# Altium footprint library POGO.PcbLib: 28 footprints (part 2 of 3)
Each footprint in its own frame and in the unit in brackets; x right, y up, seen from the top. Pads: shape width x height; smd on the part's side, far side on the other; paste and mask are expansions set on the pad; w line width, h text height; cw(c..) or ccw(c..) is an arc to the next point about the centre after c.
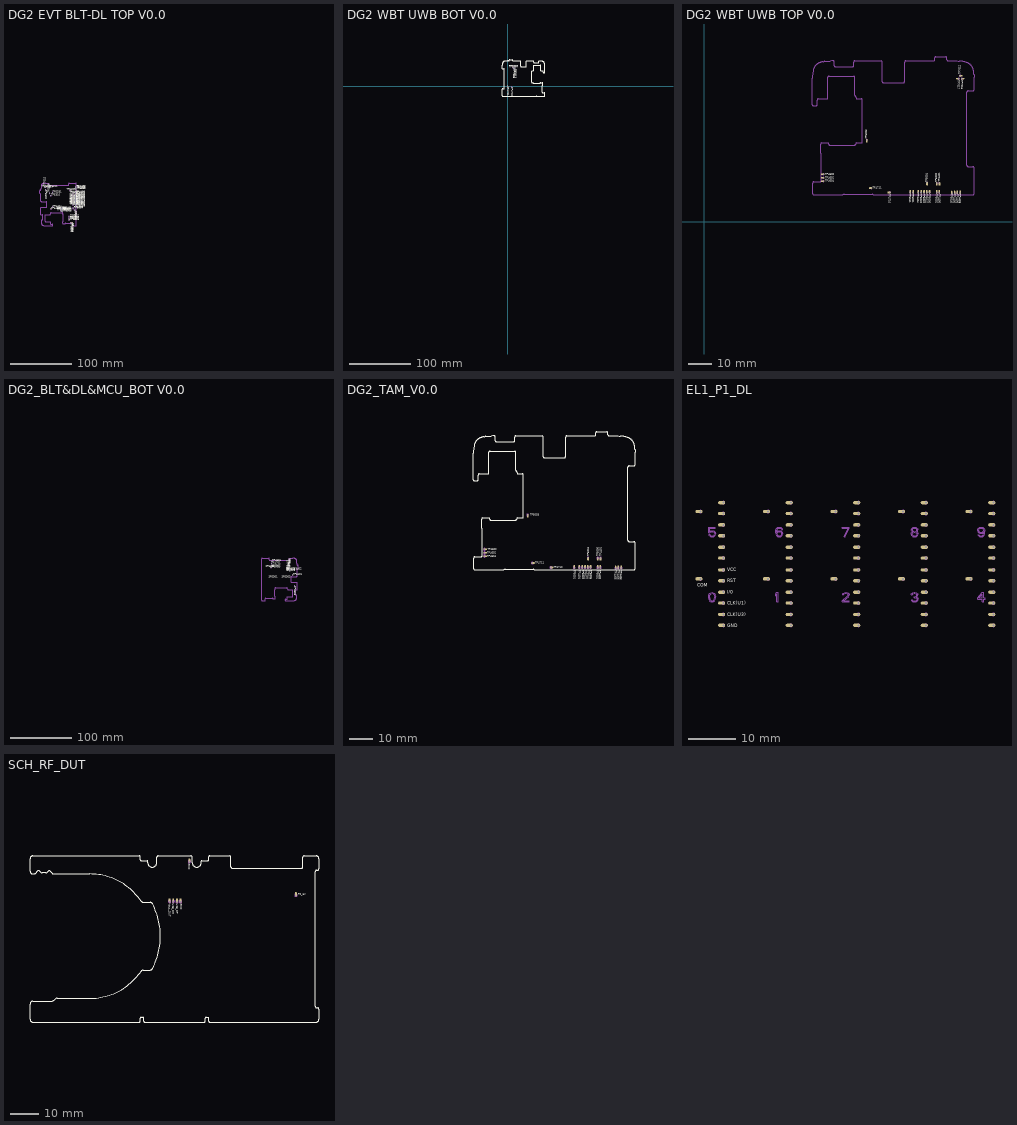
[diagram p1: the footprints below, top view; thin cyan lines are the x and y axes]

## DG2 EVT BLT-DL TOP V0.0 [mm]
pads (67):
  oval 1.5x0.7 hole 0.45 copper offset -0.35,0: TP3301(-612.206,-1149.891) TP4401(-612.168,-1129.165) TP5000(-612.168,-1130.346) TP5004(-612.244,-1134.448) TP5012(-612.206,-1148.698) TP5013(-612.181,-1146.348) TP5014(-612.244,-1142.754) TP5015(-612.155,-1145.129) TP5016(-612.168,-1143.961) TP5030(-612.244,-1141.573) TP5039(-612.257,-1135.629) TP5043(-612.193,-1147.529) TP5309(-616.803,-1125.634) TP5333(-632.056,-1155.124) TP5402(-632.056,-1159.061) TP5603(-632.069,-1156.407) TP5604(-632.081,-1157.664) TP5901(-612.244,-1139.211) TP5902(-612.231,-1140.379) TP5903(-612.257,-1136.823) TP7012(-657.824,-1120.351)
  oval 1.5x0.7 hole 0.45 copper offset 0.35,0: TP3302(-608.167,-1149.002) TP4400(-608.155,-1129.19) TP4403(-607.951,-1120.313) TP4404(-608.155,-1138.157) TP4405(-607.824,-1122.713) TP4406(-607.951,-1121.532) TP4710(-608.18,-1150.272) TP4900(-618.607,-1170.58) TP4901(-618.594,-1174.263) TP5001(-608.167,-1140.379) TP5002(-608.167,-1130.372) TP5003(-630.557,-1160.178) TP5005(-608.167,-1133.381) TP5006(-612.003,-1154.324) TP5007(-612.015,-1155.581) TP5017(-608.155,-1145.002) TP5018(-608.155,-1143.567) TP5020(-608.193,-1136.899) TP5022(-608.167,-1135.731) TP5040(-607.824,-1123.895) TP5041(-608.193,-1141.624) TP5042(-608.18,-1134.55) TP5302(-608.155,-1146.475) TP5304(-608.155,-1147.821) TP5308(-650.204,-1130.714) TP5332(-618.759,-1168.573) TP5401(-630.557,-1155.124) TP5502(-656.813,-1125.002) TP5503(-608.193,-1152.457) TP5601(-630.557,-1157.664) TP5602(-630.557,-1158.934) TP5605(-630.557,-1156.394) TP6110(-618.607,-1171.824) TP6111(-618.594,-1173.069) TP7015(-656.643,-1119.665) TP7017(-656.643,-1120.986)
  oval 0.7x1.5 hole 0.45 copper offset 0,0.35: TP4600(-615.904,-1178.556) TP4602(-614.402,-1178.553) TP4604(-613.006,-1178.56) TP5310(-648.338,-1134.626) TP5331(-645.7,-1129.505) TP5403(-648.02,-1156.076) TP5404(-645.442,-1152.901)
  oval 0.7x1.5 hole 0.45 copper offset 0,-0.35: TP4711(-610.06,-1158.159) TP5011(-608.663,-1158.146) TP5311(-652.071,-1120.846)
Top Overlay:
  text "TP4710" at -606.736,-1150.804 h0.7
  text "TP3302" at -606.736,-1149.458 h0.7
  text "TP5304" at -606.736,-1148.112 h0.7
  text "TP5302" at -606.736,-1146.765 h0.7
  text "TP5017" at -606.736,-1145.419 h0.7
  text "TP5018" at -606.736,-1144.073 h0.7
  text "TP5604" at -637.597,-1158.043 h0.7
  text "TP5310" at -647.757,-1134.929 h0.7
  text "TP5311" at -651.44,-1121.213 h0.7
  text "TP5308" at -649.802,-1130.23 h0.7
  text "TP5309" at -622.103,-1125.912 h0.7
  text "TP4901" at -616.769,-1174.68 h0.7
  text "TP6111" at -616.769,-1173.452 h0.7
  text "TP6110" at -616.769,-1172.225 h0.7
  text "TP4900" at -616.769,-1170.997 h0.7
  text "TP5042" at -606.736,-1134.993 h0.7
  text "TP5007" at -610.546,-1156.011 h0.7
  text "TP5006" at -610.546,-1154.741 h0.7
  text "TP5003" at -628.961,-1160.583 h0.7
  text "TP4403" at -606.355,-1120.705 h0.7
  text "TP4404" at -606.736,-1138.612 h0.7
  text "TP4401" at -617.912,-1129.468 h0.7
  text "TP5000" at -617.912,-1130.738 h0.7
  text "TP5005" at -606.736,-1133.786 h0.7
  text "TP5004" at -617.785,-1134.802 h0.7
  text "TP4405" at -606.355,-1123.16 h0.7
  text "TP4406" at -606.355,-1121.933 h0.7
  text "TP4400" at -606.736,-1129.595 h0.7
  text "TP5002" at -606.736,-1130.738 h0.7
  text "TP5039" at -617.785,-1135.945 h0.7
  text "TP5022" at -606.736,-1136.199 h0.7
  text "TP5020" at -606.736,-1137.406 h0.7
  text "TP5001" at -606.736,-1140.771 h0.7
  text "TP5041" at -606.736,-1142.041 h0.7
  text "TP5605" at -628.961,-1156.773 h0.7
  text "TP5603" at -637.597,-1156.773 h0.7
  text "TP5602" at -628.961,-1159.313 h0.7
  text "TP5601" at -628.961,-1158.043 h0.7
  text "TP4604" at -613.34,-1179.265 h0.7
  text "TP4600" at -616.261,-1179.265 h0.7
  text "TP5011" at -609.022,-1159.707 h0.7
  text "TP5502" at -657.155,-1125.544 h0.7
  text "TP5903" at -617.785,-1137.088 h0.7
  text "TP5331" at -645.09,-1129.849 h0.7
  text "TP5332" at -616.896,-1168.965 h0.7
  text "TP5333" at -637.597,-1155.503 h0.7
  text "TP5401" at -628.961,-1155.503 h0.7
  text "TP5402" at -637.597,-1159.313 h0.7
  text "TP5403" at -647.376,-1156.392 h0.7
  text "TP5404" at -644.836,-1153.217 h0.7
  text "TP5503" at -606.736,-1152.836 h0.7
  text "TP4711" at -610.419,-1159.707 h0.7
  text "TP7015" at -656.279,-1119.308 h0.7
  text "TP7012" at -662.997,-1120.705 h0.7
  text "TP7017" at -658.552,-1122.356 h0.7
  text "TP5040" at -606.355,-1124.388 h0.7
  text "TP4602" at -614.801,-1179.265 h0.7
  text "TP5901" at -617.658,-1139.501 h0.7
  text "TP5902" at -617.658,-1140.672 h0.7
  text "TP5030" at -617.658,-1141.843 h0.7
  text "TP5014" at -617.658,-1143.015 h0.7
  text "TP5016" at -617.658,-1144.186 h0.7
  text "TP5015" at -617.658,-1145.357 h0.7
  text "TP5013" at -617.658,-1146.528 h0.7
  text "TP5043" at -617.658,-1147.7 h0.7
  text "TP5012" at -617.658,-1148.871 h0.7
  text "TP3301" at -617.658,-1150.042 h0.7
Mechanical 2:
  circle w0.013: c-648.02,-1156.076 r0.381
  circle w0.013: c-607.951,-1120.313 r0.381
  circle w0.013: c-607.951,-1121.532 r0.381
  circle w0.013: c-607.824,-1122.713 r0.381
  circle w0.013: c-607.824,-1123.895 r0.381
  circle w0.013: c-612.168,-1129.165 r0.381
  circle w0.013: c-608.155,-1129.19 r0.381
  circle w0.013: c-612.168,-1130.346 r0.381
  circle w0.013: c-608.167,-1130.372 r0.381
  circle w0.013: c-608.167,-1133.381 r0.381
  circle w0.013: c-608.18,-1134.55 r0.381
  circle w0.013: c-608.167,-1135.731 r0.381
  circle w0.013: c-608.193,-1136.899 r0.381
  circle w0.013: c-608.155,-1138.157 r0.381
  circle w0.013: c-608.167,-1140.379 r0.381
  circle w0.013: c-608.193,-1141.624 r0.381
  circle w0.013: c-608.155,-1143.567 r0.381
  circle w0.013: c-612.168,-1143.961 r0.381
  circle w0.013: c-608.155,-1145.002 r0.381
  circle w0.013: c-612.155,-1145.129 r0.381
  circle w0.013: c-612.231,-1140.379 r0.381
  circle w0.013: c-612.244,-1142.754 r0.381
  circle w0.013: c-612.244,-1139.211 r0.381
  circle w0.013: c-612.244,-1134.448 r0.381
  circle w0.013: c-612.244,-1141.573 r0.381
  circle w0.013: c-612.257,-1136.823 r0.381
  circle w0.013: c-612.257,-1135.629 r0.381
  circle w0.013: c-616.803,-1125.634 r0.381
  circle w0.013: c-645.7,-1129.505 r0.381
  circle w0.013: c-648.338,-1134.626 r0.381
  circle w0.013: c-650.204,-1130.714 r0.381
  circle w0.013: c-652.071,-1120.846 r0.381
  circle w0.013: c-656.643,-1120.986 r0.381
  circle w0.013: c-656.643,-1119.665 r0.381
  circle w0.013: c-656.813,-1125.002 r0.381
  circle w0.013: c-657.824,-1120.351 r0.381
  circle w0.013: c-608.155,-1146.475 r0.381
  circle w0.013: c-608.155,-1147.821 r0.381
  circle w0.013: c-608.167,-1149.002 r0.381
  circle w0.013: c-608.18,-1150.272 r0.381
  circle w0.013: c-608.193,-1152.457 r0.381
  circle w0.013: c-608.663,-1158.146 r0.381
  circle w0.013: c-610.06,-1158.159 r0.381
  circle w0.013: c-612.003,-1154.324 r0.381
  circle w0.013: c-612.015,-1155.581 r0.381
  circle w0.013: c-612.181,-1146.348 r0.381
  circle w0.013: c-612.193,-1147.529 r0.381
  circle w0.013: c-612.206,-1148.698 r0.381
  circle w0.013: c-612.206,-1149.891 r0.381
  circle w0.013: c-613.006,-1178.56 r0.381
  circle w0.013: c-614.402,-1178.553 r0.381
  circle w0.013: c-615.904,-1178.556 r0.381
  circle w0.013: c-618.594,-1173.069 r0.381
  circle w0.013: c-618.594,-1174.263 r0.381
  circle w0.013: c-618.607,-1171.824 r0.381
  circle w0.013: c-618.607,-1170.58 r0.381
  circle w0.013: c-618.759,-1168.573 r0.381
  circle w0.013: c-630.557,-1156.394 r0.381
  circle w0.013: c-630.557,-1158.934 r0.381
  circle w0.013: c-630.557,-1157.664 r0.381
  circle w0.013: c-630.557,-1155.124 r0.381
  circle w0.013: c-630.557,-1160.178 r0.381
  circle w0.013: c-632.056,-1155.124 r0.381
  circle w0.013: c-632.056,-1159.061 r0.381
  circle w0.013: c-632.069,-1156.407 r0.381
  circle w0.013: c-632.081,-1157.664 r0.381
  circle w0.013: c-645.442,-1152.901 r0.381
Mechanical 4:
  lines w0.2: -665.483,-1131.173 -664.683,-1131.173 cw(c-664.683,-1131.673) -664.184,-1131.673 -664.184,-1143.538 ccw(c-663.684,-1143.538) -663.683,-1144.038 -655.398,-1144.038 cw(c-655.398,-1144.538) -654.898,-1144.538 -654.898,-1153.038 cw(c-655.398,-1153.038) -655.398,-1153.538 -663.683,-1153.538 ccw(c-663.684,-1154.038) -664.184,-1154.038 -664.184,-1165.188 ccw(c-663.684,-1165.188) -663.683,-1165.688 -662.112,-1165.688 ; -665.483,-1131.173 cw(c-665.483,-1130.673) -665.983,-1130.673 -665.983,-1126.473 cw(c-665.483,-1126.473) -665.483,-1125.973 -664.683,-1125.973 ccw(c-664.683,-1125.473) -664.184,-1125.473 -664.184,-1123.788 cw(c-438.903,-1123.761) -664.183,-1123.174 cw(c-586.172,-1123.348) -664.179,-1122.583 cw(c-620.013,-1123.016) -664.171,-1122.041 cw(c-631.892,-1122.77) -664.156,-1121.546 cw(c-638.062,-1122.533) -664.134,-1121.088 cw(c-642.332,-1122.298) -664.107,-1120.667 cw(c-646.881,-1121.944) -664.036,-1119.932 cw(c-650.246,-1121.549) -663.95,-1119.312 cw(c-652.664,-1121.15) -663.851,-1118.784 cw(c-654.345,-1120.801) -663.742,-1118.327 cw(c-655.576,-1120.476) -663.626,-1117.925 cw(c-656.634,-1120.136) -663.504,-1117.573 cw(c-657.437,-1119.839) -663.379,-1117.261 cw(c-658.063,-1119.567) -663.249,-1116.983 ; -663.974,-1177.979 ccw(c-651.892,-1176.682) -663.926,-1178.369 ccw(c-657.067,-1177.402) -663.901,-1178.53 ccw(c-659.693,-1177.834) -663.876,-1178.667 ccw(c-653.282,-1176.545) -663.855,-1178.771 ccw(c-654.28,-1176.762) -663.747,-1179.231 ccw(c-655.528,-1177.091) -663.631,-1179.635 ccw(c-656.592,-1177.422) -663.51,-1179.989 ccw(c-657.408,-1177.726) -663.384,-1180.302 ccw(c-658.037,-1177.995) -663.255,-1180.581 ccw(c-658.504,-1178.227) -663.122,-1180.832 ccw(c-658.912,-1178.462) -662.987,-1181.057 ccw(c-659.229,-1178.661) -662.851,-1181.259 ccw(c-659.6,-1178.928) -662.57,-1181.607 ; -663.974,-1177.979 cw(c-642.72,-1175.684) -664.02,-1177.507 cw(c-632.224,-1174.778) -664.062,-1176.964 cw(c-621.189,-1174.025) -664.099,-1176.366 cw(c-610.937,-1173.445) -664.13,-1175.727 cw(c-605.005,-1173.197) -664.172,-1174.398 cw(c-663.672,-1174.388) -663.672,-1173.888 -662.112,-1173.888 ccw(c-662.113,-1173.388) -661.613,-1173.388 ; -663.249,-1116.983 cw(c-658.52,-1119.337) -663.117,-1116.734 cw(c-658.927,-1119.109) -662.982,-1116.51 cw(c-659.243,-1118.906) -662.845,-1116.309 cw(c-659.605,-1118.643) -662.564,-1115.962 cw(c-659.717,-1118.542) -662.258,-1115.66 cw(c-659.862,-1118.376) -661.935,-1115.406 cw(c-659.677,-1118.651) -661.56,-1115.175 cw(c-659.448,-1119.069) -661.122,-1114.967 cw(c-659.278,-1119.482) -660.873,-1114.874 cw(c-659.034,-1120.178) -660.589,-1114.784 ; -662.57,-1181.607 ccw(c-659.714,-1179.032) -662.265,-1181.91 ccw(c-659.818,-1179.148) -662.106,-1182.043 ccw(c-659.823,-1179.148) -661.764,-1182.282 ccw(c-659.621,-1178.833) -661.569,-1182.396 ccw(c-659.454,-1178.515) -661.131,-1182.605 ccw(c-659.286,-1178.114) -660.884,-1182.699 ccw(c-659.047,-1177.426) -660.602,-1182.788 ccw(c-658.823,-1176.675) -660.318,-1182.864 ccw(c-656.773,-1168.187) -656.773,-1183.286 -645.579,-1183.286 ccw(c-645.578,-1182.786) -645.078,-1182.786 -645.078,-1181.736 ccw(c-645.579,-1181.736) -645.579,-1181.236 -647.503,-1181.236 cw(c-647.503,-1180.736) -648.003,-1180.736 ; -662.112,-1165.688 cw(c-662.113,-1166.188) -661.613,-1166.188 -661.613,-1173.388 ; -660.589,-1114.784 cw(c-658.802,-1120.999) -660.266,-1114.7 cw(c-658.593,-1121.895) -659.897,-1114.624 cw(c-658.315,-1123.439) -659.462,-1114.557 cw(c-657.997,-1125.887) -658.933,-1114.501 cw(c-657.636,-1130.307) -658.29,-1114.461 -658.243,-1114.459 cw(c-657.322,-1138.27) -657.791,-1114.446 cw(c-656.927,-1157.349) -657.265,-1114.439 -651.913,-1114.439 cw(c-651.913,-1114.938) -651.413,-1114.938 -651.413,-1116.958 ccw(c-650.913,-1116.958) -650.913,-1117.458 -619.693,-1117.458 ccw(c-619.694,-1116.958) -619.194,-1116.958 -619.194,-1114.938 cw(c-618.694,-1114.939) -618.693,-1114.439 -607.643,-1114.439 cw(c-607.643,-1114.938) -607.144,-1114.938 -607.144,-1182.636 ; -648.003,-1180.736 -648.003,-1177.136 ccw(c-648.503,-1177.136) -648.503,-1176.636 -657.184,-1176.636 cw(c-657.183,-1176.136) -657.683,-1176.136 -657.683,-1165.646 cw(c-657.184,-1165.646) -657.184,-1165.146 -649.503,-1165.146 ccw(c-649.504,-1164.646) -649.071,-1164.896 cw(c-648.638,-1165.146) -648.637,-1164.646 -648.503,-1164.646 ccw(c-648.503,-1164.146) -648.003,-1164.146 -648.003,-1162.466 cw(c-647.503,-1162.466) -647.503,-1161.966 -629.762,-1161.966 cw(c-629.762,-1162.466) -629.262,-1162.466 -629.262,-1164.388 ccw(c-628.762,-1164.388) -628.762,-1164.888 cw(c-628.762,-1165.388) -628.262,-1165.388 -628.262,-1175.788 cw(c-628.762,-1175.788) -628.762,-1176.288 ccw(c-628.762,-1176.788) -629.262,-1176.788 -629.262,-1179.234 ccw(c-628.762,-1179.234) -628.762,-1179.734 -624.943,-1179.734 ccw(c-624.943,-1179.234) -624.643,-1179.634 cw(c-624.343,-1180.034) -624.343,-1179.534 -613.194,-1179.534 cw(c-613.194,-1180.034) -612.693,-1180.034 -612.693,-1182.636 ; -612.693,-1182.636 ccw(c-612.194,-1182.636) -612.194,-1183.136 -607.643,-1183.136 ccw(c-607.643,-1182.636) -607.144,-1182.636
3D body: height 0.01, standoff 0, extent -656.652,-1119.674 -656.627,-1119.649

## DG2 WBT UWB BOT V0.0 [mm]
pads (7):
  oval 0.7x1.5 hole 0.45 copper offset 0,0.35: TP4701(0,0) TP4702(6.363,-0.914)
  oval 1.5x0.7 hole 0.45 copper offset -0.35,0: TP7007(8.61,30.366) TP7009(8.611,31.559)
  oval 0.7x1.5 hole 0.45 copper offset 0,-0.35: TP7013(11.811,29.413) TP7014(10.63,29.413) TP7016(9.411,29.413)
Top Overlay:
  lines w0.2: -8.592,-15.358 ccw(c-8.092,-15.358) -8.092,-15.857 33.863,-15.857 ccw(c33.863,-14.857) 34.289,-15.762 cw(c34.757,-16.757) 34.757,-15.658 46.757,-15.658 cw(c46.758,-16.758) 47.226,-15.762 ccw(c47.652,-14.857) 47.652,-15.857 59.605,-15.857 ccw(c59.605,-15.358) 60.105,-15.358 60.105,-10.807 ccw(c59.605,-10.807) 59.605,-10.308 57.003,-10.308 cw(c57.003,-9.807) 56.503,-9.807 56.503,1.342 cw(c57.003,1.342) 56.603,1.642 ccw(c56.203,1.942) 56.703,1.942 56.703,5.761 ccw(c56.203,5.761) 56.203,6.261 53.757,6.261 ccw(c53.757,5.761) 53.257,5.761 cw(c52.757,5.761) 52.757,5.261 42.357,5.261 cw(c42.357,5.761) 41.857,5.761 ccw(c41.357,5.761) 41.357,6.261 39.435,6.261 cw(c39.435,6.761) 38.935,6.761 38.935,24.502 cw(c39.435,24.502) 39.435,25.002 41.115,25.002 ccw(c41.115,25.502) 41.615,25.502 41.615,25.636 cw(c42.115,25.637) 41.865,26.07 ccw(c41.616,26.503) 42.115,26.502 42.115,34.183 cw(c42.615,34.183) 42.615,34.682 53.105,34.682 cw(c53.105,34.182) 53.605,34.183 53.605,25.502 ccw(c54.105,25.502) 54.105,25.002 57.705,25.002 cw(c57.705,24.502) 58.205,24.502 58.205,22.578 ccw(c58.705,22.578) 58.705,22.077 59.756,22.077 ccw(c59.755,22.577) 60.255,22.578 60.255,33.772 ccw(c45.156,33.772) 59.833,37.317 ccw(c53.644,35.822) 59.758,37.601 ccw(c54.396,36.046) 59.668,37.883 ccw(c55.084,36.285) 59.574,38.13 ccw(c55.484,36.453) 59.366,38.568 ccw(c55.803,36.62) 59.252,38.763 ccw(c56.117,36.822) 59.012,39.105 ccw(c56.117,36.817) 58.879,39.264 ccw(c56.002,36.713) 58.577,39.569 ccw(c55.897,36.599) 58.228,39.85 ccw(c55.63,36.228) 58.026,39.986 ccw(c55.431,35.911) 57.801,40.121 ccw(c55.196,35.503) 57.551,40.254 ccw(c54.965,35.036) 57.272,40.383 ccw(c54.696,34.408) 56.958,40.509 ccw(c54.392,33.591) 56.604,40.63 ccw(c54.06,32.527) 56.2,40.746 ccw(c53.732,31.279) 55.74,40.854 ccw(c53.515,30.282) 55.636,40.875 ccw(c54.803,36.692) 55.5,40.9 ccw(c54.371,34.066) 55.338,40.925 ccw(c53.652,28.891) 54.948,40.973 ccw(c52.653,19.72) 54.476,41.019 ccw(c51.747,9.223) 53.933,41.061 ccw(c50.994,-1.812) 53.335,41.098 ccw(c50.414,-12.064) 52.696,41.129 ccw(c50.167,-17.996) 51.367,41.171 ccw(c51.357,40.671) 50.857,40.671 50.857,39.111 cw(c50.357,39.112) 50.357,38.612 43.157,38.612 cw(c43.157,39.112) 42.657,39.111 42.657,40.682 ccw(c42.157,40.683) 42.157,41.183 31.007,41.183 ccw(c31.007,40.683) 30.507,40.682 30.507,32.397 cw(c30.007,32.397) 30.007,31.897 21.507,31.897 cw(c21.507,32.397) 21.007,32.397 21.007,40.682 ccw(c20.507,40.683) 20.507,41.183 8.642,41.183 cw(c8.642,41.682) 8.142,41.682 8.142,42.483 ccw(c7.642,42.482) 7.642,42.982 3.442,42.982 ccw(c3.442,42.482) 2.942,42.483 2.942,41.682 cw(c2.442,41.682) 2.442,41.183 0.757,41.183 ccw(c0.73,-184.098) 0.144,41.182 ccw(c0.317,-36.829) -0.448,41.178 ccw(c-0.015,-2.988) -0.989,41.17 ccw(c-0.261,8.891) -1.485,41.155 ccw(c-0.498,15.061) -1.942,41.133 ccw(c-0.733,19.331) -2.363,41.106 ccw(c-1.087,23.88) -3.099,41.035 ccw(c-1.482,27.245) -3.719,40.949 ccw(c-1.88,29.663) -4.247,40.85 ccw(c-2.229,31.344) -4.704,40.741 ccw(c-2.554,32.575) -5.105,40.625 ccw(c-2.895,33.633) -5.458,40.503 ccw(c-3.191,34.436) -5.77,40.378 ccw(c-3.463,35.062) -6.047,40.248 ccw(c-3.693,35.519) -6.297,40.116 ccw(c-3.922,35.926) -6.521,39.981 ccw(c-4.125,36.242) -6.722,39.844 ccw(c-4.387,36.604) -7.069,39.563 ccw(c-4.489,36.716) -7.371,39.257 ccw(c-4.655,36.861) -7.625,38.934 ccw(c-4.38,36.676) -7.855,38.559 ccw(c-3.961,36.447) -8.063,38.121 ccw(c-3.548,36.277) -8.157,37.872 ccw(c-2.852,36.033) -8.247,37.588 ccw(c-2.032,35.801) -8.331,37.265 ccw(c-1.135,35.592) -8.407,36.896 ccw(c0.408,35.314) -8.474,36.461 ccw(c2.857,34.996) -8.53,35.932 ccw(c7.277,34.635) -8.569,35.289 -8.571,35.242 ccw(c15.239,34.321) -8.585,34.79 ccw(c34.318,33.926) -8.592,34.264 -8.592,28.912 ccw(c-8.092,28.912) -8.092,28.412 -6.073,28.412 cw(c-6.073,27.912) -5.573,27.912 -5.573,-3.308 cw(c-6.073,-3.307) -6.073,-3.807 -8.092,-3.807 ccw(c-8.092,-4.307) -8.592,-4.308 -8.592,-15.358
  text "TP7016" at 9.07,27.636 h0.7
  text "TP7013" at 11.661,27.636 h0.7
  text "TP7009" at 2.822,31.307 h0.7
  text "TP7007" at 2.745,29.986 h0.7
  text "TP4702" at 5.895,-1.498 h0.7
  text "TP4701" at -0.557,-0.659 h0.7
  text "TP7014" at 10.365,27.636 h0.7
Mechanical 2:
  circle w0.013: c0,0 r0.225
  circle w0.013: c0,0 r0.225
  circle w0.013: c6.363,-0.914 r0.225
  circle w0.013: c6.363,-0.914 r0.225
  circle w0.013: c9.411,29.413 r0.225
  circle w0.013: c10.63,29.413 r0.225
  circle w0.013: c11.811,29.413 r0.225
  circle w0.013: c9.411,29.413 r0.225
  circle w0.013: c10.63,29.413 r0.225
  circle w0.013: c11.811,29.413 r0.225
  circle w0.013: c8.61,30.366 r0.225
  circle w0.013: c8.61,30.366 r0.225
  circle w0.013: c8.611,31.559 r0.225
  circle w0.013: c8.611,31.559 r0.225
3D body: height 0.01, standoff 0, extent -0.013,-0.013 0.013,0.012

## DG2 WBT UWB TOP V0.0 [mm]
pads (25):
  oval 0.7x1.5 hole 0.45 copper offset 0,0.35: TP4400(100.036,12.354) TP4403(108.914,12.15) TP4404(91.07,12.354) TP4405(106.513,12.023) TP4406(107.694,12.15) TP5001(88.848,12.366) TP5002(98.855,12.366) TP5005(95.845,12.366) TP5020(92.327,12.392) TP5022(93.496,12.366) TP5040(105.332,12.023) TP5041(87.603,12.392) TP5042(94.677,12.379)
  oval 0.7x1.5 hole 0.45 copper offset 0,-0.35: TP4401(100.062,16.367) TP5000(98.881,16.367) TP5003(69.048,34.756) TP5004(94.779,16.443)
  oval 1.5x0.7 hole 0.45 copper offset -0.35,0: TP4600(50.671,20.103) TP4602(50.674,18.601) TP4604(50.667,17.205) TP4710(78.954,12.379) TP4711(71.068,14.259) TP7017(108.241,60.842)
  oval 1.5x0.7 hole 0.45 copper offset 0.35,0: TP7012(108.876,62.023) TP7015(109.561,60.842)
Top Overlay:
  text "TP4403" at 108.528,11.639 h0.7
  text "TP4406" at 107.334,11.639 h0.7
  text "TP4405" at 106.191,11.665 h0.7
  text "TP5040" at 104.972,11.665 h0.7
  text "TP4400" at 99.663,11.69 h0.7
  text "TP5002" at 98.495,11.716 h0.7
  text "TP5005" at 95.422,11.716 h0.7
  text "TP5042" at 94.253,11.716 h0.7
  text "TP5022" at 93.085,11.716 h0.7
  text "TP5020" at 91.891,11.716 h0.7
  text "TP4404" at 90.621,11.741 h0.7
  text "TP5001" at 88.487,11.766 h0.7
  text "TP5041" at 87.192,11.741 h0.7
  text "TP4401" at 100.387,16.859 h0.7
  text "TP5000" at 99.168,16.809 h0.7
  text "TP5004" at 95.104,16.809 h0.7
  text "TP4710" at 78.581,11.716 h0.7
  text "TP4711" at 71.723,13.913 h0.7
  text "TP4604" at 51.429,16.859 h0.7
  text "TP4602" at 51.403,18.307 h0.7
  text "TP4600" at 51.403,19.806 h0.7
  text "TP5003" at 69.374,35.325 h0.7
  text "TP7012" at 109.201,62.605 h0.7
  text "TP7017" at 107.893,60.204 h0.7
  text "TP7015" at 109.239,60.204 h0.7
Mechanical 1:
  circle w0.013: c50.671,20.103 r0.225
  circle w0.013: c50.674,18.601 r0.225
  circle w0.013: c50.667,17.205 r0.225
  circle w0.013: c71.068,14.259 r0.225
  circle w0.013: c78.954,12.379 r0.225
  circle w0.013: c87.603,12.392 r0.225
  circle w0.013: c88.848,12.366 r0.225
  circle w0.013: c91.07,12.354 r0.225
  circle w0.013: c94.779,16.443 r0.225
  circle w0.013: c98.881,16.367 r0.225
  circle w0.013: c100.062,16.367 r0.225
  circle w0.013: c98.855,12.366 r0.225
  circle w0.013: c95.845,12.366 r0.225
  circle w0.013: c94.677,12.379 r0.225
  circle w0.013: c93.496,12.366 r0.225
  circle w0.013: c92.327,12.392 r0.225
  circle w0.013: c100.036,12.354 r0.225
  circle w0.013: c105.332,12.023 r0.225
  circle w0.013: c106.513,12.023 r0.225
  circle w0.013: c107.694,12.15 r0.225
  circle w0.013: c108.876,62.023 r0.225
  circle w0.013: c109.561,60.842 r0.225
  circle w0.013: c108.241,60.842 r0.225
  circle w0.013: c108.914,12.15 r0.225
  circle w0.013: c69.048,34.756 r0.225
  circle w0.013: c50.671,20.103 r0.225
  circle w0.013: c50.674,18.601 r0.225
  circle w0.013: c50.667,17.205 r0.225
  circle w0.013: c71.068,14.259 r0.225
  circle w0.013: c78.954,12.379 r0.225
  circle w0.013: c87.603,12.392 r0.225
  circle w0.013: c88.848,12.366 r0.225
  circle w0.013: c91.07,12.354 r0.225
  circle w0.013: c94.779,16.443 r0.225
  circle w0.013: c98.881,16.367 r0.225
  circle w0.013: c100.062,16.367 r0.225
  circle w0.013: c98.855,12.366 r0.225
  circle w0.013: c95.845,12.366 r0.225
  circle w0.013: c94.677,12.379 r0.225
  circle w0.013: c93.496,12.366 r0.225
  circle w0.013: c92.327,12.392 r0.225
  circle w0.013: c100.036,12.354 r0.225
  circle w0.013: c105.332,12.023 r0.225
  circle w0.013: c106.513,12.023 r0.225
  circle w0.013: c107.694,12.15 r0.225
  circle w0.013: c108.876,62.023 r0.225
  circle w0.013: c109.561,60.842 r0.225
  circle w0.013: c108.241,60.842 r0.225
  circle w0.013: c108.914,12.15 r0.225
  circle w0.013: c69.048,34.756 r0.225
Mechanical 2:
  lines w0.2: 45.94,49.777 ccw(c46.44,49.777) 46.44,49.277 47.49,49.277 ccw(c47.49,49.777) 47.99,49.777 47.99,51.702 cw(c48.49,51.702) 48.49,52.202 52.091,52.202 ccw(c52.091,52.702) 52.59,52.702 52.59,61.382 cw(c53.09,61.382) 53.091,61.882 63.581,61.882 cw(c63.581,61.382) 64.08,61.382 64.08,53.702 ccw(c64.58,53.702) 64.331,53.269 cw(c64.08,52.836) 64.58,52.836 64.58,52.702 ccw(c65.08,52.702) 65.08,52.202 66.761,52.202 cw(c66.76,51.702) 67.26,51.702 67.26,33.961 cw(c66.76,33.961) 66.761,33.461 64.839,33.461 ccw(c64.838,32.961) 64.338,32.961 cw(c63.838,32.961) 63.839,32.461 53.439,32.461 cw(c53.439,32.961) 52.938,32.961 ccw(c52.439,32.961) 52.439,33.461 49.993,33.461 ccw(c49.992,32.961) 49.492,32.961 49.492,29.142 ccw(c49.992,29.142) 49.592,28.842 cw(c49.193,28.542) 49.693,28.542 49.693,17.392 cw(c49.192,17.392) 49.192,16.892 46.59,16.892 ccw(c46.59,16.392) 46.091,16.392 46.091,11.842 ccw(c46.59,11.842) 46.59,11.342 58.544,11.342 ccw(c58.544,12.342) 58.97,11.438 cw(c59.438,10.442) 59.439,11.542 71.438,11.542 cw(c71.439,10.443) 71.907,11.438 ccw(c72.333,12.342) 72.333,11.342 114.288,11.342 ccw(c114.288,11.842) 114.788,11.842 114.788,22.892 ccw(c114.288,22.892) 114.288,23.392 112.268,23.392 cw(c112.268,23.892) 111.768,23.892 111.768,55.112 cw(c112.268,55.112) 112.268,55.612 114.288,55.612 ccw(c114.288,56.112) 114.788,56.112 114.788,61.464 114.781,61.99 114.767,62.442 114.765,62.489 ccw(c98.919,61.835) 114.726,63.132 ccw(c103.339,62.196) 114.67,63.661 ccw(c105.788,62.514) 114.603,64.096 ccw(c107.331,62.792) 114.527,64.465 ccw(c108.228,63.001) 114.443,64.788 ccw(c109.048,63.233) 114.353,65.072 ccw(c109.744,63.477) 114.259,65.32 ccw(c110.157,63.647) 114.051,65.759 ccw(c110.576,63.876) 113.82,66.134 ccw(c110.85,64.06) 113.566,66.457 ccw(c110.685,63.915) 113.265,66.763 ccw(c110.583,63.804) 112.917,67.044 ccw(c110.321,63.442) 112.717,67.18 ccw(c110.118,63.125) 112.493,67.316 ccw(c109.889,62.719) 112.243,67.448 ccw(c109.659,62.262) 111.965,67.577 ccw(c109.387,61.635) 111.654,67.703 ccw(c109.091,60.833) 111.301,67.825 ccw(c108.75,59.775) 110.9,67.941 ccw(c108.425,58.544) 110.442,68.05 ccw(c108.076,56.863) 109.914,68.148 ccw(c107.678,54.444) 109.295,68.235 ccw(c107.283,51.08) 108.559,68.306 108.138,68.333 107.68,68.354 107.185,68.369 106.643,68.378 106.052,68.382 105.438,68.382 103.753,68.382 cw(c103.753,68.882) 103.254,68.882 103.254,69.682 ccw(c102.754,69.682) 102.753,70.182 98.554,70.182 ccw(c98.553,69.682) 98.053,69.682 98.053,68.882 cw(c97.554,68.882) 97.554,68.382 85.688,68.382 ccw(c85.689,67.882) 85.189,67.882 85.189,59.597 cw(c84.688,59.597) 84.688,59.097 76.189,59.097 cw(c76.189,59.597) 75.688,59.597 75.688,67.882 ccw(c75.188,67.882) 75.189,68.382 64.038,68.382 ccw(c64.039,67.882) 63.539,67.882 63.539,66.311 cw(c63.039,66.311) 63.038,65.811 55.839,65.811 cw(c55.838,66.311) 55.338,66.311 55.338,67.871 ccw(c54.839,67.871) 54.828,68.371 ccw(c56.029,9.204) 53.499,68.329 52.861,68.298 52.263,68.261 51.72,68.219 51.248,68.173 ccw(c52.544,56.09) 50.857,68.125 50.696,68.1 50.56,68.075 50.456,68.054 ccw(c52.464,58.479) 49.996,67.946 ccw(c52.136,59.727) 49.592,67.83 ccw(c51.804,60.791) 49.237,67.709 ccw(c51.5,61.607) 48.924,67.583 ccw(c51.231,62.236) 48.645,67.454 ccw(c51,62.703) 48.395,67.321 ccw(c50.765,63.111) 48.17,67.186 ccw(c50.566,63.428) 47.968,67.05 ccw(c50.299,63.799) 47.619,66.769 ccw(c50.194,63.912) 47.316,66.464 ccw(c50.079,64.017) 47.184,66.305 ccw(c50.079,64.022) 46.944,65.963 ccw(c50.393,63.82) 46.83,65.768 ccw(c50.712,63.652) 46.622,65.33 ccw(c51.112,63.485) 46.528,65.083 ccw(c51.8,63.246) 46.438,64.801 ccw(c52.552,63.022) 46.363,64.517 ccw(c61.04,60.972) 45.94,60.971 45.94,49.777
3D body: height 0.01, standoff 0, extent 69.036,34.744 69.061,34.769

## DG2_BLT&DL&MCU_BOT V0.0 [mm]
pads (13):
  oval 0.7x1.5 hole 0.45 copper offset 0,-0.35: TP3401(-606.245,-1164.377) TP4601(-639.976,-1142.012) TP4701(-640.446,-1145.848) TP4702(-641.36,-1152.211) TP5334(-614.384,-1141.187) TP5335(-615.85,-1141.161)
  oval 0.7x1.5 hole 0.45 copper offset 0,0.35: TP3402(-606.232,-1155.881) TP4603(-603.285,-1182.157) TP7007(-610.08,-1154.458) TP7009(-608.886,-1154.458)
  oval 1.5x0.7 hole 0.45 copper offset -0.35,0: TP7013(-611.032,-1157.659) TP7014(-611.032,-1156.478) TP7016(-611.032,-1155.259)
Top Overlay:
  text "SP5304" at -649.611,-1151.744 h0.7
  text "SP5301" at -645.141,-1169.244 h0.7
  text "TP4702" at -640.747,-1152.531 h0.7
  text "SP5302" at -639.985,-1150.728 h0.7
  text "TP4701" at -639.807,-1146.257 h0.7
  text "TP4601" at -639.299,-1142.32 h0.7
  text "SP5303" at -623.678,-1168.965 h0.7
  text "TP5335" at -616.185,-1143.349 h0.7
  text "TP5334" at -614.635,-1143.222 h0.7
  text "TP7016" at -616.337,-1155.554 h0.7
  text "TP7014" at -616.312,-1156.925 h0.7
  text "TP7007" at -609.873,-1153.039 h0.7
  text "TP7013" at -616.337,-1158.119 h0.7
  text "TP7009" at -608.476,-1152.912 h0.7
  text "TP3401" at -605.542,-1164.672 h0.7
  text "TP3402" at -605.796,-1156.214 h0.7
  text "TP4603" at -603.663,-1182.897 h0.7
Mechanical 2:
  circle w0.013: c-614.384,-1141.187 r0.25
  circle w0.013: c-611.032,-1157.659 r0.25
  circle w0.013: c-615.85,-1141.161 r0.25
  circle w0.013: c-606.232,-1155.881 r0.25
  circle w0.013: c-608.886,-1154.458 r0.25
  circle w0.013: c-611.032,-1155.259 r0.25
  circle w0.013: c-611.032,-1156.478 r0.25
  circle w0.013: c-606.245,-1164.377 r0.25
  circle w0.013: c-610.08,-1154.458 r0.25
  circle w0.013: c-639.976,-1142.012 r0.25
  circle w0.013: c-641.36,-1152.211 r0.25
  circle w0.013: c-640.446,-1145.848 r0.25
  circle w0.013: c-603.285,-1182.157 r0.25
  lines w0.013: -656.303,-1205.453 ccw(c-655.803,-1205.453) -655.803,-1205.953 -651.253,-1205.953 ccw(c-651.253,-1205.453) -650.753,-1205.453 -650.753,-1202.851 cw(c-650.253,-1202.851) -650.253,-1202.351 -639.103,-1202.351 cw(c-639.103,-1202.851) -638.803,-1202.451 ccw(c-638.503,-1202.051) -638.503,-1202.551 -634.684,-1202.551 ccw(c-634.684,-1202.051) -634.184,-1202.051 -634.184,-1199.605 ccw(c-634.684,-1199.605) -634.684,-1199.105 cw(c-634.684,-1198.605) -635.184,-1198.605 -635.184,-1188.205 cw(c-634.684,-1188.205) -634.684,-1187.705 ccw(c-634.684,-1187.205) -634.184,-1187.205 -634.184,-1185.283 cw(c-633.684,-1185.283) -633.684,-1184.783 -615.943,-1184.783 cw(c-615.943,-1185.283) -615.443,-1185.283 -615.443,-1186.963 ccw(c-614.943,-1186.963) -614.943,-1187.463 -614.809,-1187.463 cw(c-614.809,-1187.963) -614.376,-1187.713 ccw(c-613.943,-1187.463) -613.943,-1187.963 -606.263,-1187.963 cw(c-606.263,-1188.463) -605.763,-1188.463 -605.763,-1198.953 cw(c-606.263,-1198.953) -606.263,-1199.453 -614.943,-1199.453 ccw(c-614.943,-1199.953) -615.443,-1199.953 -615.443,-1203.553 cw(c-615.943,-1203.553) -615.943,-1204.053 -617.868,-1204.053 ccw(c-617.868,-1204.553) -618.368,-1204.553 -618.368,-1205.603 ccw(c-617.868,-1205.603) -617.868,-1206.103 -606.674,-1206.103 ccw(c-606.674,-1191.004) -603.128,-1205.681 ccw(c-604.624,-1199.492) -602.845,-1205.605 ccw(c-604.399,-1200.243) -602.563,-1205.515 ccw(c-604.161,-1200.931) -602.315,-1205.421 ccw(c-603.993,-1201.332) -601.878,-1205.213 ccw(c-603.825,-1201.65) -601.682,-1205.099 ccw(c-603.624,-1201.965) -601.341,-1204.86 ccw(c-603.628,-1201.965) -601.182,-1204.727 ccw(c-603.733,-1201.849) -600.876,-1204.424 ccw(c-603.847,-1201.745) -600.596,-1204.076 ccw(c-604.218,-1201.477) -600.459,-1203.874 ccw(c-604.535,-1201.278) -600.324,-1203.649 ccw(c-604.942,-1201.044) -600.192,-1203.398 ccw(c-605.409,-1200.812) -600.062,-1203.119 ccw(c-606.038,-1200.543) -599.937,-1202.806 ccw(c-606.855,-1200.239) -599.816,-1202.451 ccw(c-607.919,-1199.908) -599.7,-1202.048 ccw(c-609.167,-1199.579) -599.592,-1201.588 ccw(c-610.164,-1199.362) -599.57,-1201.484 ccw(c-603.754,-1200.651) -599.545,-1201.347 ccw(c-606.379,-1200.219) -599.521,-1201.186 ccw(c-611.555,-1199.499) -599.472,-1200.796 ccw(c-620.726,-1198.501) -599.427,-1200.323 ccw(c-631.222,-1197.594) -599.385,-1199.781 ccw(c-642.257,-1196.842) -599.348,-1199.182 ccw(c-652.509,-1196.261) -599.317,-1198.544 ccw(c-658.441,-1196.014) -599.275,-1197.215 ccw(c-599.775,-1197.205) -599.775,-1196.705 -601.334,-1196.705 cw(c-601.334,-1196.205) -601.834,-1196.205 -601.834,-1189.005 cw(c-601.334,-1189.005) -601.334,-1188.505 -599.763,-1188.505 ccw(c-599.763,-1188.005) -599.263,-1188.005 -599.263,-1176.855 ccw(c-599.763,-1176.855) -599.763,-1176.355 -608.049,-1176.355 cw(c-608.049,-1175.855) -608.549,-1175.855 -608.549,-1167.355 cw(c-608.049,-1167.355) -608.049,-1166.855 -599.763,-1166.855 ccw(c-599.763,-1166.355) -599.263,-1166.355 -599.263,-1154.49 cw(c-598.763,-1154.49) -598.763,-1153.99 -597.963,-1153.99 ccw(c-597.963,-1153.49) -597.463,-1153.49 -597.463,-1149.29 ccw(c-597.963,-1149.29) -597.963,-1148.79 -598.763,-1148.79 cw(c-598.763,-1148.29) -599.263,-1148.29 -599.263,-1146.605 ccw(c-824.544,-1146.578) -599.264,-1145.991 ccw(c-677.275,-1146.165) -599.267,-1145.4 ccw(c-643.434,-1145.833) -599.276,-1144.858 ccw(c-631.554,-1145.587) -599.291,-1144.363 ccw(c-625.384,-1145.35) -599.312,-1143.905 ccw(c-621.115,-1145.115) -599.34,-1143.484 ccw(c-616.566,-1144.761) -599.41,-1142.749 ccw(c-613.201,-1144.366) -599.497,-1142.129 ccw(c-610.782,-1143.967) -599.596,-1141.601 ccw(c-609.102,-1143.618) -599.705,-1141.143 ccw(c-607.871,-1143.293) -599.821,-1140.742 ccw(c-606.813,-1142.953) -599.942,-1140.39 ccw(c-606.01,-1142.656) -600.068,-1140.078 ccw(c-605.383,-1142.384) -600.197,-1139.8 ccw(c-604.926,-1142.154) -600.33,-1139.551 ccw(c-604.52,-1141.926) -600.465,-1139.327 ccw(c-604.203,-1141.723) -600.602,-1139.126 ccw(c-603.842,-1141.46) -600.883,-1138.779 ccw(c-603.73,-1141.359) -601.188,-1138.477 ccw(c-603.585,-1141.193) -601.511,-1138.223 ccw(c-603.77,-1141.468) -601.886,-1137.992 ccw(c-603.998,-1141.886) -602.325,-1137.784 ccw(c-604.169,-1142.299) -602.574,-1137.691 ccw(c-604.412,-1142.995) -602.857,-1137.601 ccw(c-604.645,-1143.816) -603.181,-1137.517 ccw(c-604.854,-1144.712) -603.55,-1137.441 ccw(c-605.132,-1146.256) -603.985,-1137.374 ccw(c-605.449,-1148.704) -604.514,-1137.318 ccw(c-605.811,-1153.124) -605.156,-1137.278 -605.203,-1137.276 ccw(c-606.124,-1161.086) -605.656,-1137.263 ccw(c-606.52,-1180.166) -606.181,-1137.256 -611.533,-1137.256 ccw(c-611.533,-1137.755) -612.033,-1137.755 -612.033,-1139.775 cw(c-612.533,-1139.775) -612.533,-1140.275 -643.753,-1140.275 cw(c-643.753,-1139.775) -644.253,-1139.775 -644.253,-1137.755 ccw(c-644.753,-1137.756) -644.753,-1137.256 -655.803,-1137.256 ccw(c-655.803,-1137.755) -656.303,-1137.755 -656.303,-1205.453
3D body: height 0.01, standoff 0, extent -606.245,-1164.403 -606.219,-1164.377

## DG2_TAM_V0.0 [mm]
pads (20):
  oval 0.7x1.5 hole 0.45 copper offset 0,0.35: TP4400(-1151.597,-1141.873) TP4403(-1142.72,-1142.076) TP4405(-1145.12,-1142.203) TP4406(-1143.939,-1142.076) TP5001(-1162.786,-1141.861) TP5002(-1152.778,-1141.861) TP5005(-1155.788,-1141.861) TP5020(-1159.306,-1141.835) TP5022(-1158.137,-1141.861) TP5041(-1160.563,-1141.873) TP5042(-1156.956,-1141.848)
  oval 0.7x1.5 hole 0.45 copper offset 0,-0.35: TP4401(-1151.572,-1137.86) TP5000(-1152.753,-1137.86) TP5003(-1182.585,-1119.47) TP5004(-1156.855,-1137.784)
  oval 1.5x0.7 hole 0.45 copper offset 0.35,0: TP4600(-1200.962,-1134.124) TP4602(-1200.96,-1135.626) TP4604(-1200.966,-1137.022) TP4710(-1172.679,-1141.848) TP4711(-1180.566,-1139.968)
Top Overlay:
  lines w0.2: -1205.693,-1104.449 ccw(c-1205.193,-1104.45) -1205.193,-1104.95 -1204.143,-1104.95 ccw(c-1204.143,-1104.449) -1203.643,-1104.449 -1203.643,-1102.525 cw(c-1203.143,-1102.524) -1203.143,-1102.024 -1199.543,-1102.024 ccw(c-1199.543,-1101.525) -1199.043,-1101.525 -1199.043,-1092.844 cw(c-1198.543,-1092.845) -1198.543,-1092.345 -1188.053,-1092.345 cw(c-1188.053,-1092.844) -1187.553,-1092.844 -1187.553,-1100.525 ccw(c-1187.053,-1100.524) -1187.303,-1100.957 cw(c-1187.553,-1101.39) -1187.053,-1101.39 -1187.053,-1101.525 ccw(c-1186.553,-1101.525) -1186.553,-1102.024 -1184.873,-1102.024 cw(c-1184.873,-1102.524) -1184.373,-1102.525 -1184.373,-1120.265 cw(c-1184.873,-1120.266) -1184.873,-1120.766 -1186.795,-1120.766 ccw(c-1186.795,-1121.266) -1187.295,-1121.265 cw(c-1187.795,-1121.266) -1187.795,-1121.766 -1198.195,-1121.766 cw(c-1198.195,-1121.265) -1198.695,-1121.265 ccw(c-1199.195,-1121.265) -1199.195,-1120.766 -1201.641,-1120.766 ccw(c-1201.641,-1121.266) -1202.141,-1121.265 -1202.141,-1125.085 ccw(c-1201.641,-1125.084) -1202.041,-1125.385 cw(c-1202.441,-1125.685) -1201.941,-1125.685 -1201.941,-1136.834 cw(c-1202.441,-1136.834) -1202.441,-1137.335 -1205.043,-1137.335 ccw(c-1205.043,-1137.834) -1205.543,-1137.834 -1205.543,-1142.385 ccw(c-1205.043,-1142.385) -1205.043,-1142.884 -1193.089,-1142.884 ccw(c-1193.089,-1141.884) -1192.663,-1142.789 cw(c-1192.195,-1143.785) -1192.195,-1142.685 -1180.195,-1142.685 cw(c-1180.195,-1143.784) -1179.726,-1142.789 ccw(c-1179.3,-1141.884) -1179.3,-1142.884 -1137.345,-1142.884 ccw(c-1137.345,-1142.385) -1136.845,-1142.385 -1136.845,-1131.335 ccw(c-1137.345,-1131.334) -1137.345,-1130.834 -1139.365,-1130.834 cw(c-1139.365,-1130.334) -1139.865,-1130.335 -1139.865,-1099.115 cw(c-1139.365,-1099.115) -1139.365,-1098.614 -1137.345,-1098.614 ccw(c-1137.345,-1098.115) -1136.845,-1098.115 -1136.845,-1092.763 -1136.853,-1092.237 -1136.866,-1091.784 -1136.868,-1091.737 ccw(c-1152.714,-1092.392) -1136.908,-1091.095 ccw(c-1148.294,-1092.031) -1136.963,-1090.566 ccw(c-1145.846,-1091.713) -1137.031,-1090.131 ccw(c-1144.302,-1091.435) -1137.106,-1089.762 ccw(c-1143.406,-1091.226) -1137.191,-1089.438 ccw(c-1142.585,-1090.994) -1137.28,-1089.155 ccw(c-1141.889,-1090.75) -1137.374,-1088.906 ccw(c-1141.476,-1090.579) -1137.582,-1088.467 ccw(c-1141.058,-1090.351) -1137.813,-1088.093 ccw(c-1140.783,-1090.166) -1138.067,-1087.77 ccw(c-1140.949,-1090.311) -1138.369,-1087.464 ccw(c-1141.05,-1090.423) -1138.716,-1087.183 ccw(c-1141.312,-1090.785) -1138.917,-1087.046 ccw(c-1141.515,-1091.101) -1139.141,-1086.911 ccw(c-1141.744,-1091.508) -1139.39,-1086.779 ccw(c-1141.974,-1091.965) -1139.668,-1086.649 ccw(c-1142.246,-1092.591) -1139.979,-1086.524 ccw(c-1142.543,-1093.394) -1140.332,-1086.402 ccw(c-1142.883,-1094.452) -1140.733,-1086.286 ccw(c-1143.208,-1095.683) -1141.191,-1086.177 ccw(c-1143.557,-1097.364) -1141.719,-1086.078 ccw(c-1143.956,-1099.782) -1142.339,-1085.991 ccw(c-1144.351,-1103.147) -1143.074,-1085.921 -1143.495,-1085.894 -1143.953,-1085.872 -1144.448,-1085.857 -1144.99,-1085.849 -1145.581,-1085.845 -1146.195,-1085.844 -1147.88,-1085.844 cw(c-1147.88,-1085.345) -1148.38,-1085.345 -1148.38,-1084.544 ccw(c-1148.88,-1084.545) -1148.88,-1084.045 -1153.08,-1084.045 ccw(c-1153.08,-1084.545) -1153.58,-1084.544 -1153.58,-1085.345 cw(c-1154.08,-1085.345) -1154.08,-1085.844 -1165.945,-1085.844 ccw(c-1165.945,-1086.344) -1166.445,-1086.345 -1166.445,-1094.63 cw(c-1166.945,-1094.63) -1166.945,-1095.13 -1175.445,-1095.13 cw(c-1175.445,-1094.63) -1175.945,-1094.63 -1175.945,-1086.345 ccw(c-1176.445,-1086.344) -1176.445,-1085.844 -1187.595,-1085.844 ccw(c-1187.595,-1086.344) -1188.095,-1086.345 -1188.095,-1087.916 cw(c-1188.595,-1087.915) -1188.595,-1088.415 -1195.795,-1088.415 cw(c-1195.795,-1087.915) -1196.295,-1087.916 -1196.295,-1086.356 ccw(c-1196.795,-1086.356) -1196.805,-1085.856 ccw(c-1195.604,-1145.023) -1198.134,-1085.898 -1198.772,-1085.929 -1199.371,-1085.966 -1199.913,-1086.008 -1200.386,-1086.054 ccw(c-1199.089,-1098.136) -1200.776,-1086.102 -1200.937,-1086.127 -1201.074,-1086.151 -1201.177,-1086.173 ccw(c-1199.169,-1095.748) -1201.638,-1086.281 ccw(c-1199.498,-1094.5) -1202.041,-1086.397 ccw(c-1199.829,-1093.436) -1202.396,-1086.518 ccw(c-1200.133,-1092.619) -1202.709,-1086.644 ccw(c-1200.402,-1091.991) -1202.988,-1086.773 ccw(c-1200.634,-1091.524) -1203.239,-1086.906 ccw(c-1200.868,-1091.116) -1203.464,-1087.04 ccw(c-1201.067,-1090.799) -1203.666,-1087.177 ccw(c-1201.335,-1090.428) -1204.014,-1087.458 ccw(c-1201.439,-1090.314) -1204.317,-1087.763 ccw(c-1201.555,-1090.21) -1204.45,-1087.922 ccw(c-1201.554,-1090.205) -1204.689,-1088.264 ccw(c-1201.24,-1090.406) -1204.803,-1088.459 ccw(c-1200.922,-1090.574) -1205.011,-1088.896 ccw(c-1200.521,-1090.742) -1205.105,-1089.144 ccw(c-1199.833,-1090.981) -1205.195,-1089.426 ccw(c-1199.082,-1091.205) -1205.271,-1089.71 ccw(c-1190.594,-1093.255) -1205.693,-1093.255 -1205.693,-1104.449
  text "TP4404" at -1160.725,-1143.106 h0.3
  text "TP4403" at -1143.046,-1143.157 h0.3
  text "TP4406" at -1144.291,-1143.157 h0.3
  text "TP4405" at -1145.485,-1143.157 h0.3
  text "TP4400" at -1151.987,-1143.106 h0.3
  text "TP5002" at -1153.155,-1143.106 h0.3
  text "TP5005" at -1155.822,-1143.106 h0.3
  text "TP5042" at -1157.016,-1143.106 h0.3
  text "TP5022" at -1158.235,-1143.106 h0.3
  text "TP5020" at -1159.429,-1143.106 h0.3
  text "TP5001" at -1162.96,-1143.106 h0.3
  text "TP4710" at -1171.52,-1142.183 h0.3
  text "TP4401" at -1151.082,-1137.103 h0.3
  text "TP5000" at -1152.301,-1137.128 h0.3
  text "TP5004" at -1156.416,-1137.153 h0.3
  text "TP4711" at -1179.394,-1140.303 h0.3
  text "TP4600" at -1199.637,-1134.461 h0.3
  text "TP4602" at -1199.663,-1136.01 h0.3
  text "TP4604" at -1199.688,-1137.484 h0.3
  text "TP5003" at -1181.527,-1119.831 h0.3
Mechanical 1:
  circle w0.013: c-1160.563,-1141.873 r0.381
  circle w0.013: c-1160.563,-1141.873 r0.225
  circle w0.013: c-1180.566,-1139.968 r0.381
  circle w0.013: c-1200.962,-1134.124 r0.381
  circle w0.013: c-1200.96,-1135.626 r0.381
  circle w0.013: c-1200.966,-1137.022 r0.381
  circle w0.013: c-1172.679,-1141.848 r0.381
  circle w0.013: c-1162.786,-1141.861 r0.381
  circle w0.013: c-1159.306,-1141.835 r0.381
  circle w0.013: c-1158.137,-1141.861 r0.381
  circle w0.013: c-1152.778,-1141.861 r0.381
  circle w0.013: c-1151.597,-1141.873 r0.381
  circle w0.013: c-1143.939,-1142.076 r0.381
  circle w0.013: c-1145.12,-1142.203 r0.381
  circle w0.013: c-1156.855,-1137.784 r0.381
  circle w0.013: c-1155.788,-1141.861 r0.381
  circle w0.013: c-1152.753,-1137.86 r0.381
  circle w0.013: c-1151.572,-1137.86 r0.381
  circle w0.013: c-1142.72,-1142.076 r0.381
  circle w0.013: c-1182.585,-1119.47 r0.381
  circle w0.013: c-1156.956,-1141.848 r0.381
  circle w0.013: c-1200.962,-1134.124 r0.225
  circle w0.013: c-1200.96,-1135.626 r0.225
  circle w0.013: c-1200.966,-1137.022 r0.225
  circle w0.013: c-1143.939,-1142.076 r0.225
  circle w0.013: c-1145.12,-1142.203 r0.225
  circle w0.013: c-1151.597,-1141.873 r0.225
  circle w0.013: c-1151.572,-1137.86 r0.225
  circle w0.013: c-1152.753,-1137.86 r0.225
  circle w0.013: c-1152.778,-1141.861 r0.225
  circle w0.013: c-1155.788,-1141.861 r0.225
  circle w0.013: c-1156.956,-1141.848 r0.225
  circle w0.013: c-1156.855,-1137.784 r0.225
  circle w0.013: c-1158.137,-1141.861 r0.225
  circle w0.013: c-1159.306,-1141.835 r0.225
  circle w0.013: c-1162.786,-1141.861 r0.225
  circle w0.013: c-1172.679,-1141.848 r0.225
  circle w0.013: c-1180.566,-1139.968 r0.225
  circle w0.013: c-1182.585,-1119.47 r0.225
  circle w0.013: c-1142.72,-1142.076 r0.225
3D body: height 0.01, standoff 0, extent -1182.575,-1119.483 -1182.549,-1119.458

## EL1_P1_DL [mm]
pads (70):
  oval 1.5x0.7 hole 0.45 copper offset -0.35,0: 1(-283.099,-1111.479) 2(-283.099,-1109.177) 3(-283.099,-1106.777) 4(-283.099,-1104.478) 5(-283.099,-1102.078) 6(-283.099,-1099.779) 7(-287.909,-1101.663) 8(-268.849,-1111.481) 9(-268.849,-1109.18) 10(-268.849,-1106.78) 11(-268.849,-1104.481) 12(-268.849,-1102.081) 13(-268.849,-1099.782) 14(-273.659,-1101.665) 15(-254.599,-1111.479) 16(-254.599,-1109.177) 17(-254.599,-1106.777) 18(-254.599,-1104.478) 19(-254.599,-1102.078) 20(-254.599,-1099.779) 21(-259.409,-1101.663) 22(-240.349,-1111.481) 23(-240.349,-1109.18) 24(-240.349,-1106.78) 25(-240.349,-1104.481) 26(-240.349,-1102.078) 27(-240.349,-1099.779) 28(-245.159,-1101.665) 29(-226.099,-1111.479) 30(-226.099,-1109.177) 31(-226.099,-1106.777) 32(-226.099,-1104.478) 33(-226.099,-1102.078) 34(-226.099,-1099.779) 35(-230.909,-1101.663) 36(-283.099,-1097.281) 37(-283.099,-1094.98) 38(-283.099,-1092.58) 39(-283.099,-1090.281) 40(-283.099,-1087.881) 41(-283.099,-1085.582) 42(-287.909,-1087.465) 43(-268.849,-1097.281) 44(-268.849,-1094.98) 45(-268.849,-1092.58) 46(-268.849,-1090.281) 47(-268.849,-1087.881) 48(-268.849,-1085.582) 49(-273.659,-1087.465) 50(-254.599,-1097.281) 51(-254.599,-1094.98) 52(-254.599,-1092.58) 53(-254.599,-1090.281) 54(-254.599,-1087.881) 55(-254.599,-1085.582) 56(-259.409,-1087.465) 57(-240.349,-1097.281) 58(-240.349,-1094.98) 59(-240.349,-1092.58) 60(-240.349,-1090.281) 61(-240.349,-1087.881) 62(-240.349,-1085.582) 63(-245.159,-1087.465) 64(-226.099,-1097.281) 65(-226.099,-1094.98) 66(-226.099,-1092.58) 67(-226.099,-1090.281) 68(-226.099,-1087.881) 69(-226.099,-1085.582) 70(-230.909,-1087.465)
Top Overlay:
  text "CLK(U3)" at -282.296,-1109.586 h0.7
  text "CLK(U1)" at -282.296,-1107.173 h0.7
  text "RST" at -282.296,-1102.347 h0.7
  text "I/0" at -282.296,-1104.76 h0.7
  text "GND" at -282.296,-1111.872 h0.7
  text "COM" at -288.652,-1103.306 h0.7
  text "VCC" at -282.296,-1100.061 h0.7
Mechanical 2:
  drawing of 663 lines, arcs and shapes, not listed
3D body: height 0.01, standoff 0, extent -287.919,-1087.475 -287.899,-1087.455
3D body: height 1.27, standoff 0, extent -287.659,-1087.465 -287.659,-1087.465

## SCH_RF_DUT [mm]
pads (6):
  oval 0.7x1.5 hole 0.45 copper offset 0,0.35: 1(-999.28,-1113.418) 2(-997.984,-1113.418) 3(-996.688,-1113.429) 4(-993.614,-1099.337) 5(-955.936,-1111.177) 6(-1000.576,-1113.406)
Top Overlay:
  lines w0.013: -1049.928,-1155.091 ccw(c-1048.928,-1155.091) -1048.928,-1156.091 -1011.283,-1156.091 ccw(c-1011.283,-1155.791) -1010.983,-1155.791 -1010.983,-1154.738 cw(c-1010.683,-1154.738) -1010.683,-1154.438 -1009.983,-1154.438 cw(c-1009.983,-1154.738) -1009.683,-1154.738 -1009.683,-1155.791 ccw(c-1009.383,-1155.791) -1009.383,-1156.091 -988.283,-1156.091 ccw(c-988.283,-1155.791) -987.983,-1155.791 -987.983,-1154.738 cw(c-987.683,-1154.738) -987.683,-1154.438 -986.983,-1154.438 cw(c-986.983,-1154.738) -986.683,-1154.738 -986.683,-1155.791 ccw(c-986.383,-1155.791) -986.383,-1156.091 -948.738,-1156.091 ccw(c-948.738,-1155.091) -947.738,-1155.091 -947.738,-1151.536 ccw(c-948.238,-1151.536) -948.238,-1151.036 -948.533,-1151.036 cw(c-948.533,-1150.536) -949.033,-1150.536 -949.033,-1102.836 cw(c-948.533,-1102.836) -948.533,-1102.336 -948.238,-1102.336 ccw(c-948.238,-1101.836) -947.738,-1101.836 -947.738,-1098.281 ccw(c-948.738,-1098.281) -948.738,-1097.281 -952.968,-1097.281 ccw(c-952.968,-1097.781) -953.468,-1097.781 -953.468,-1101.181 cw(c-953.968,-1101.181) -953.968,-1101.681 -978.368,-1101.681 cw(c-978.368,-1101.181) -978.868,-1101.181 -978.868,-1097.781 ccw(c-979.368,-1097.781) -979.368,-1097.281 -986.383,-1097.281 ccw(c-986.383,-1097.581) -986.683,-1097.581 -986.683,-1098.635 cw(c-986.983,-1098.635) -986.983,-1098.935 -989.183,-1098.935 ccw(c-989.183,-1099.135) -989.383,-1099.135 -989.383,-1099.686 cw(c-990.983,-1099.686) -992.583,-1099.686 -992.583,-1097.781 ccw(c-993.083,-1097.781) -993.083,-1097.281 -1004.583,-1097.281 ccw(c-1004.583,-1097.781) -1005.083,-1097.781 -1005.083,-1099.686 cw(c-1006.683,-1099.686) -1008.283,-1099.686 -1008.283,-1099.135 ccw(c-1008.483,-1099.135) -1008.483,-1098.935 -1010.683,-1098.935 cw(c-1010.683,-1098.635) -1010.983,-1098.635 -1010.983,-1097.581 ccw(c-1011.283,-1097.581) -1011.283,-1097.281 -1048.928,-1097.281 ccw(c-1048.928,-1098.281) -1049.928,-1098.281 -1049.928,-1102.686 ccw(c-1048.928,-1102.686) -1048.928,-1103.686 -1048.272,-1103.686 ccw(c-1048.272,-1103.386) -1047.984,-1103.472 cw(c-1047.697,-1103.559) -1047.909,-1103.346 -1047.119,-1102.556 cw(c-1046.907,-1102.768) -1046.695,-1102.556 -1046.001,-1103.249 ccw(c-1045.789,-1103.037) -1045.698,-1103.323 cw(c-1045.033,-1105.42) -1044.367,-1103.323 ccw(c-1044.276,-1103.037) -1044.064,-1103.249 -1043.371,-1102.556 cw(c-1043.159,-1102.768) -1042.947,-1102.556 -1042.156,-1103.346 cw(c-1042.368,-1103.559) -1042.081,-1103.472 ccw(c-1041.794,-1103.386) -1041.794,-1103.686 -1028.833,-1103.686 cw(c-1028.833,-1125.686) -1010.684,-1113.251 ccw(c-1009.859,-1112.686) -1009.859,-1113.686 -1007.502,-1113.686 cw(c-1007.502,-1114.686) -1006.613,-1114.228 cw(c-1028.833,-1125.686) -1006.613,-1137.145 cw(c-1007.502,-1136.686) -1007.502,-1137.686 -1009.859,-1137.686 ccw(c-1009.859,-1138.686) -1010.684,-1138.121 cw(c-1028.833,-1125.686) -1028.833,-1147.686 -1040.372,-1147.686 ccw(c-1040.372,-1148.686) -1041.015,-1147.92 -1041.649,-1148.452 cw(c-1042.292,-1147.686) -1042.292,-1148.686 -1048.928,-1148.686 ccw(c-1048.928,-1149.686) -1049.928,-1149.686 -1049.928,-1155.091
  text "Vbus_DUT" at -1000.827,-1114.241 h0.7
  text "GND" at -996.88,-1114.241 h0.7
  text "USB_DP" at -998.16,-1114.241 h0.7
  text "USB_DM" at -999.557,-1114.241 h0.7
  text "GND" at -993.959,-1100.144 h0.7
  text "PS_5V" at -955.097,-1111.19 h0.7
Mechanical 14:
  circle w0.013: c-993.614,-1099.337 r0.445
  circle w0.013: c-1000.576,-1113.406 r0.445
  circle w0.013: c-999.28,-1113.418 r0.445
  circle w0.013: c-997.984,-1113.418 r0.445
  circle w0.013: c-996.688,-1113.429 r0.445
  circle w0.013: c-955.936,-1111.177 r0.445
3D body: height 0.25, standoff -19.93, extent -1049.401,-1098.931 -1049.274,-1098.804